# Altium footprint library MOLEX_2171800001.PcbLib: 1 footprints
Each footprint in its own frame and in the unit in brackets; x right, y up, seen from the top. Pads: shape width x height; smd on the part's side, far side on the other; paste and mask are expansions set on the pad; w line width, h text height; cw(c..) or ccw(c..) is an arc to the next point about the centre after c.
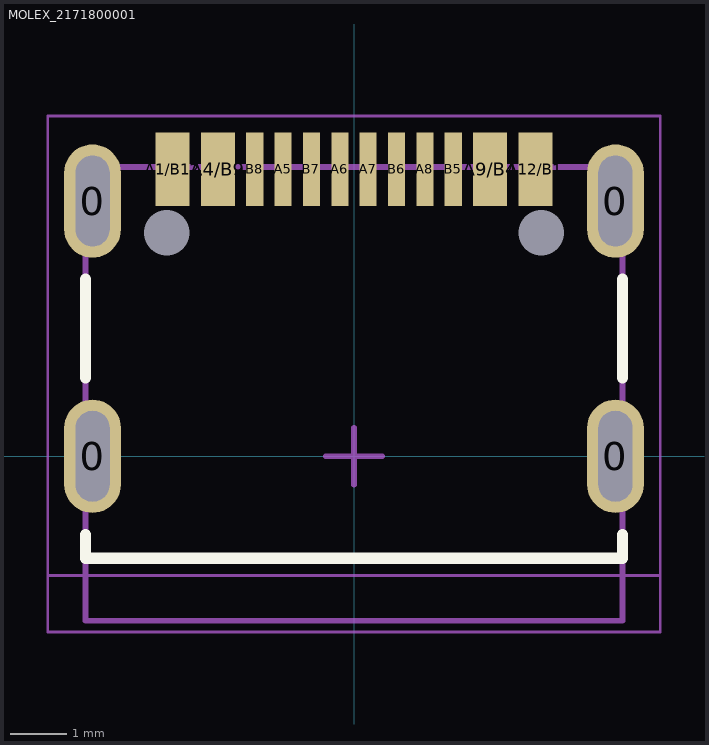
[diagram p0: the footprint, top view; thin cyan lines are the x and y axes]

## MOLEX_2171800001 [mm]
height 7.98
pads (18):
  rrect100% 1x2 hole 0.6 slot 1.6 at 90 deg: 0(-4.61,0) 0(-4.61,4.5) 0(4.61,0) 0(4.61,4.5)
  rect 0.6x1.3 smd: A1/B12(-3.2,5.06) A4/B9(-2.4,5.06) A9/B4(2.4,5.06) A12/B1(3.2,5.06)
  rect 0.3x1.3 smd: A5(-1.25,5.06) A6(-0.25,5.06) A7(0.25,5.06) A8(1.25,5.06) B5(1.75,5.06) B6(0.75,5.06) B7(-0.75,5.06) B8(-1.75,5.06)
  round 0.65 hole 0.8 unplated mask+0.102: ""(-3.3,3.94) ""(3.3,3.94)
Top Overlay:
  lines w0.2: -4.735,-1.38 -4.735,-1.8 4.735,-1.8 4.735,-1.38 ; -4.735,1.38 -4.735,3.12 ; 4.735,1.38 4.735,3.12
Mechanical 13:
  lines w0.1: -4.735,-2.9 4.735,-2.9 4.735,5.1 -4.735,5.1 -4.735,-2.9
Mechanical 15:
  lines w0.05: -5.4,-2.1 5.4,-2.1 ; -5.4,-3.1 -5.4,6 5.4,6 5.4,-3.1 -5.4,-3.1
  lines w0.1: -0.5,0 0.5,0 ; 0,-0.5 0,0.5
  text "PCB Edge" at -1.648,-1.883 h0.5
3D body "MOLEX_2171800001.stp": height 7.79, standoff -1.29, extent -4.73,-2.902 4.74,5.498